# EAGLE library part MINI-SHUTTLE (library untitled)
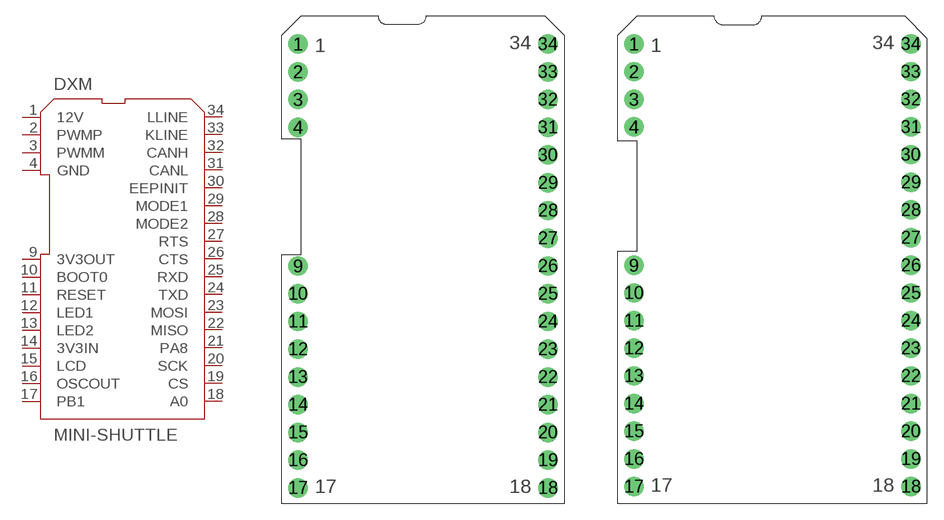
[diagram p1: symbol with the pads of MINI-SHUTTLE; footprints MINI-SHUTTLE, MINI-SHUTTLE2]

Designator prefix DXM

## MINI-SHUTTLE0,9"  [MINI-SHUTTLE]
1  12V  pwr
2  PWMP
3  PWMM
4  GND  pwr
9  3V3OUT  pwr
10  BOOT0
11  RESET
12  LED1
13  LED2
14  3V3IN  pwr
15  LCD
16  OSCOUT
17  PB1
18  A0
19  CS
20  SCK
21  PA8
22  MISO
23  MOSI
24  TXD
25  RXD
26  CTS
27  RTS
28  MODE2  pwr
29  MODE1  pwr
30  EEPINIT
31  CANL
32  CANH
33  KLINE
34  LLINE  pwr

## MINI-SHUTTLE1.0"  [MINI-SHUTTLE2]
Pads as for MINI-SHUTTLE

## Footprint MINI-SHUTTLE (pad centres in mm)
drill 1 pad 1.778 round: 1 1.524,41.91; 2 1.524,39.37; 3 1.524,36.83; 4 1.524,34.29; 9 1.524,21.59; 10 1.524,19.05; 11 1.524,16.51; 12 1.524,13.97; 13 1.524,11.43; 14 1.524,8.89; 15 1.524,6.35; 16 1.524,3.81; 17 1.524,1.27; 18 24.384,1.27; 19 24.384,3.81; 20 24.384,6.35; 21 24.384,8.89; 22 24.384,11.43; 23 24.384,13.97; 24 24.384,16.51; 25 24.384,19.05; 26 24.384,21.59; 27 24.384,24.13; 28 24.384,26.67; 29 24.384,29.21; 30 24.384,31.75; 31 24.384,34.29; 32 24.384,36.83; 33 24.384,39.37; 34 24.384,41.91

## Footprint MINI-SHUTTLE2 (pad centres in mm)
drill 1 pad 1.778 round: 1 1.524,42.164; 2 1.524,39.624; 3 1.524,37.084; 4 1.524,34.544; 9 1.524,21.844; 10 1.524,19.304; 11 1.524,16.764; 12 1.524,14.224; 13 1.524,11.684; 14 1.524,9.144; 15 1.524,6.604; 16 1.524,4.064; 17 1.524,1.524; 18 26.924,1.524; 19 26.924,4.064; 20 26.924,6.604; 21 26.924,9.144; 22 26.924,11.684; 23 26.924,14.224; 24 26.924,16.764; 25 26.924,19.304; 26 26.924,21.844; 27 26.924,24.384; 28 26.924,26.924; 29 26.924,29.464; 30 26.924,32.004; 31 26.924,34.544; 32 26.924,37.084; 33 26.924,39.624; 34 26.924,42.164